# Altium schematic symbol library SN74ACT08IDREP.SchLib: 1 symbol
Pins are listed as number, name and electrical type; pins without a type are passive.

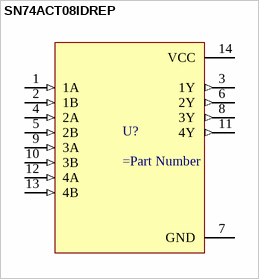
[diagram p0: symbol SN74ACT08IDREP]

## SN74ACT08IDREP
designator U?
=Description; MP: SN74ACT08IDREP; Package: None; Price: None; Value: *; Availability: Unavailable
footprint SOIC127P600X175-14N
pins: 1 1A (in), 2 1B (in), 3 1Y (out), 4 2A (in), 5 2B (in), 6 2Y (out), 7 GND (power), 8 3Y (out), 9 3A (in), 10 3B (in), 11 4Y (out), 12 4A (in), 13 4B (in), 14 VCC (power)